# Altium footprint library W02G-E4_51.PcbLib: 1 footprints
Each footprint in its own frame and in the unit in brackets; x right, y up, seen from the top. Pads: shape width x height; smd on the part's side, far side on the other; paste and mask are expansions set on the pad; w line width, h text height; cw(c..) or ccw(c..) is an arc to the next point about the centre after c.
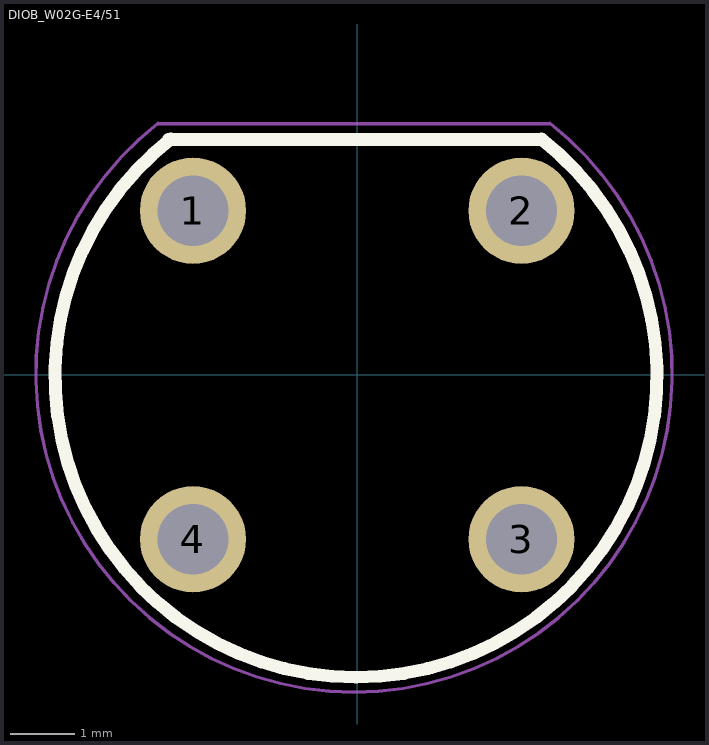
[diagram p0: the footprint, top view; thin cyan lines are the x and y axes]

## DIOB_W02G-E4/51 [mm]
pads (4):
  round 1.65 hole 1.1: 1(-2.55,2.55) 2(2.55,2.55) 3(2.55,-2.55) 4(-2.55,-2.55)
Top Overlay:
  lines w0.2: -2.93,3.655 2.81,3.655 ; -2.895,3.662 ccw(c-0.019,-0.02) 2.858,3.662
Mechanical 1:
  lines w0.05: -3.1,3.9 3,3.9 ; -3.091,3.907 ccw(c-0.05,0.015) 2.991,3.907